# EAGLE library part MCP9808 (library Capstone Library)
MCP9808 Maximum Accuracy Digital Temperature Sensor
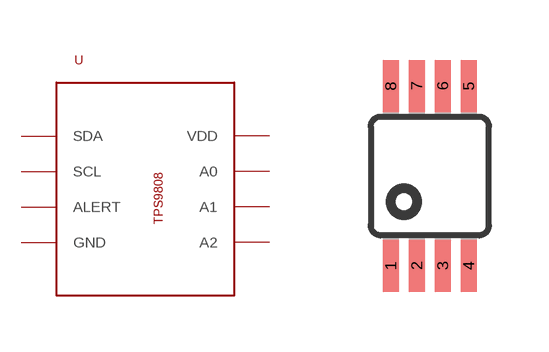
[diagram p1: symbol with the pads of MSOP8; footprint MSOP8]

Designator prefix -

## MCP9808  [MSOP8]
1  SDA
2  SCL
3  ALERT
4  GND
5  A2
6  A1
7  A0
8  VDD

## Footprint MSOP8 (pad centres in mm)
8M, 8-Lead, 0.118" Wide, Miniature Small Outline Package MSOP 8M-Package doc1097.pdf
smd 0.4 x 1.3: 1 -0.975,-2.25; 2 -0.325,-2.25; 3 0.325,-2.25; 4 0.975,-2.25; 5 0.975,2.25; 6 0.325,2.25; 7 -0.325,2.25; 8 -0.975,2.25